# Altium schematic symbol library header 2x4.SchLib: 1 symbol
Pins are listed as number, name and electrical type; pins without a type are passive.

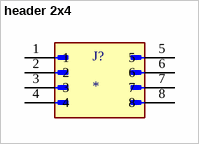
[diagram p0: symbol header 2x4]

## header 2x4
designator J?
Connector Header Through Hole 8 position 0.118 (3.00mm); MF: Molex; MP: 2068320801; SnapEDA_Link: https://www.snapeda.com/parts/2068320801/Molex/view-part/?ref=snap; Package: None; Value: *; Check_prices: https://www.snapeda.com/parts/2068320801/Molex/view-part/?ref=eda
footprint MOLEX_2068320801
pins: 1, 2, 3, 4, 5, 6, 7, 8